# Altium schematic symbol library theremin.SchLib: 4 symbols
Pins are listed as number, name and electrical type; pins without a type are passive.

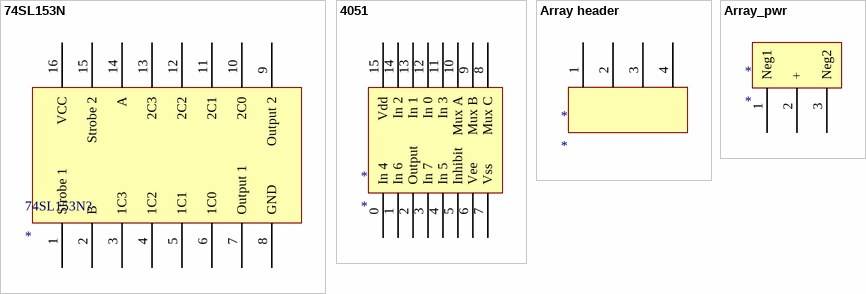
[diagram p0: symbols 74SL153N to Array_pwr]

## 74SL153N
designator 74SL153N?
footprint SN74LS153N
pins: 1 Strobe 1, 2 B, 3 1C3, 4 1C2, 5 1C1, 6 1C0, 7 Output 1, 8 GND, 9 Output 2, 10 2C0, 11 2C1, 12 2C2, 13 2C3, 14 A, 15 Strobe 2, 16 VCC

## 4051
designator *
footprint 4051
pins: 0 In 4, 1 In 6, 2 Output, 3 In 7, 4 In 5, 5 Inhibit, 6 Vee, 7 Vss, 8 Mux C, 9 Mux B, 10 Mux A, 11 In 3, 12 In 0, 13 In 1, 14 In 2, 15 Vdd

## Array header
designator *
footprint array header
pins: 1, 2, 3, 4

## Array_pwr
designator *
footprint Array pwr
pins: 1 Neg1, 2 +, 3 Neg2